# Altium schematic symbol library UCC287508DBVR.SchLib: 1 symbol
Pins are listed as number, name and electrical type; pins without a type are passive.

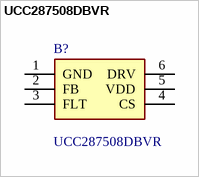
[diagram p0: symbol UCC287508DBVR]

## UCC287508DBVR
designator B?
Converter Offline Flyback, Secondary Side SR Topology 100kHz SOT-23-6; Manufacturer_Name: Texas Instruments; Geometry.Height: 1.45mm; Mouser Part Number: *; Mouser Price/Stock: *; Manufacturer_Part_Number: UCC287508DBVR; Datasheet Link: https://www.ti.com/lit/ds/symlink/ucc28750.pdf?ts=1759323086966&ref_url=https%253A%252F%252Fwww.ti.com%252Fproduct%252FUCC28750
footprint SOT95P280X145-6N
pins: 1 GND, 2 FB, 3 FLT, 4 CS, 5 VDD, 6 DRV